# Altium schematic symbol library kmilo17pet-NSC_Interface.SchLib: 1433 symbols (part 23 of 51)
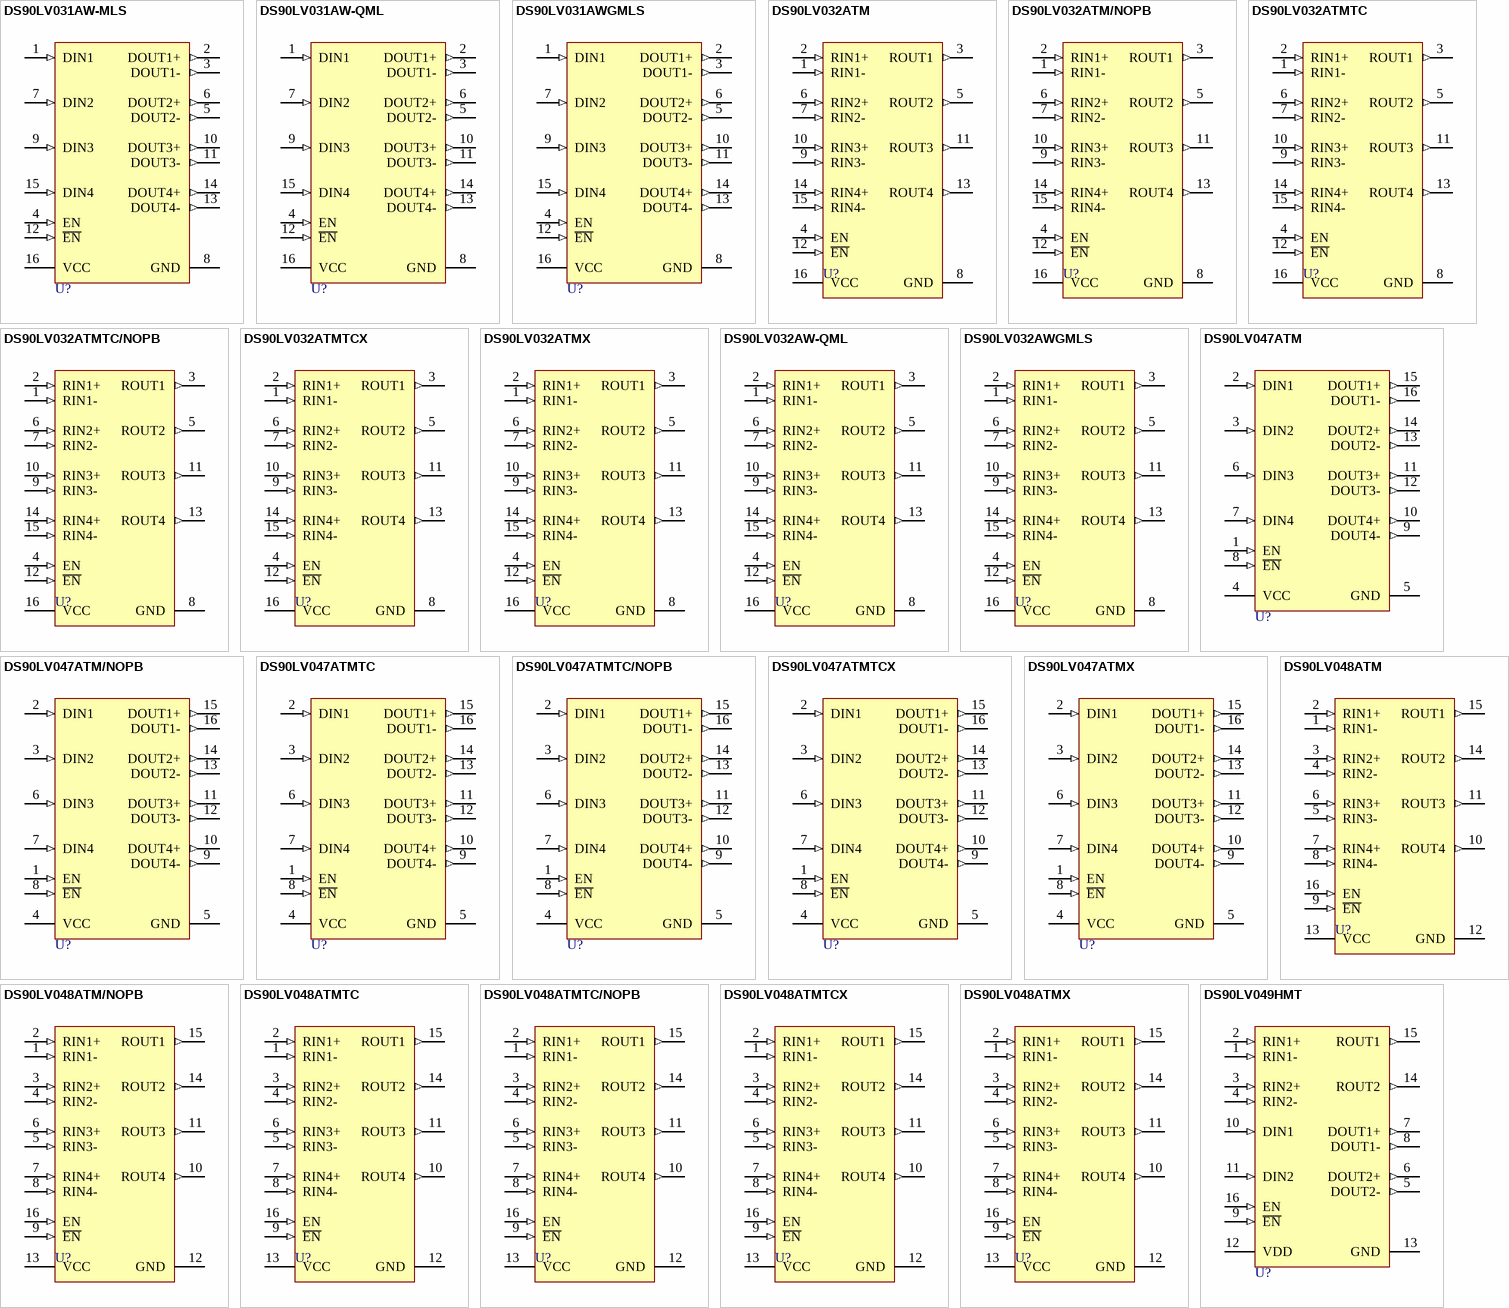
[diagram p146: symbols DS90LV031AW-MLS to DS90LV049HMT]

## DS90LV048ATMTC/NOPB
designator U?
3V LVDS Quad CMOS Differential Line Receiver, 16-pin TSSOP, Pb-Free; PartNumber: DS90LV048ATMTC/NOPB; Manufacturer: National Semiconductor; PackageTopMarking: NS2ZXYTT*DS90LV*048AT; PowerWise: N; CompType: Interface IC; High-Reliability: Y; DatasheetVersion: May-2001; PackageVersion: revD, Jun-2003; PackageReference: MTC16; PackageDescription: Molded TSSOP, Jedec, 5 x 4.4 x 0.9mm Body, 16 Lead, 0.65mm Pitch; RoHS: Y; PinCount: 16; Code_JEDEC: MO-153-AB; ComponentLink1Description: Manufacturer URL; ComponentLink1URL: http://www.national.com/; ComponentLink2Description: DS90LV048A Datasheet; ComponentLink2URL: http://www.national.com/ds/DS/DS90LV048A.pdf; ComponentLink3Description: DS90LV048A Web Page; ComponentLink3URL: http://www.national.com/pf/DS/DS90LV048A.html; ComponentLink4Description: MTC16 Package Page; ComponentLink4URL: http://www.national.com/packaging/folders/mtc16.html
footprint MTC16_N (TSOP, 16-Leads, Body 5x4.4mm, Pitch 0.65mm, IPC Medium Density)
footprint MTC16_L (TSOP, 16-Leads, Body 5x4.4mm, Pitch 0.65mm, IPC High Density)
footprint MTC16_M (TSOP, 16-Leads, Body 5x4.4mm, Pitch 0.65mm, IPC Low Density)
pins: 1 RIN1- (in), 2 RIN1+ (in), 3 RIN2+ (in), 4 RIN2- (in), 5 RIN3- (in), 6 RIN3+ (in), 7 RIN4+ (in), 8 RIN4- (in), 9 ~{EN} (in), 10 ROUT4 (out), 11 ROUT3 (out), 12 GND (power), 13 VCC (power), 14 ROUT2 (out), 15 ROUT1 (out), 16 EN (in)

## DS90LV048ATMTCX
designator U?
3V LVDS Quad CMOS Differential Line Receiver, 16-pin TSSOP; PartNumber: DS90LV048ATMTCX; Manufacturer: National Semiconductor; PackageTopMarking: NS2ZXYTT*DS90LV*048AT; PowerWise: N; CompType: Interface IC; High-Reliability: Y; DatasheetVersion: May-2001; PackageVersion: revD, Jun-2003; PackageReference: MTC16; PackageDescription: Molded TSSOP, Jedec, 5 x 4.4 x 0.9mm Body, 16 Lead, 0.65mm Pitch; RoHS: N; PinCount: 16; Code_JEDEC: MO-153-AB; ComponentLink1Description: Manufacturer URL; ComponentLink1URL: http://www.national.com/; ComponentLink2Description: DS90LV048A Datasheet; ComponentLink2URL: http://www.national.com/ds/DS/DS90LV048A.pdf; ComponentLink3Description: DS90LV048A Web Page; ComponentLink3URL: http://www.national.com/pf/DS/DS90LV048A.html; ComponentLink4Description: MTC16 Package Page; ComponentLink4URL: http://www.national.com/packaging/folders/mtc16.html
footprint MTC16_N (TSOP, 16-Leads, Body 5x4.4mm, Pitch 0.65mm, IPC Medium Density)
footprint MTC16_L (TSOP, 16-Leads, Body 5x4.4mm, Pitch 0.65mm, IPC High Density)
footprint MTC16_M (TSOP, 16-Leads, Body 5x4.4mm, Pitch 0.65mm, IPC Low Density)
pins: 1 RIN1- (in), 2 RIN1+ (in), 3 RIN2+ (in), 4 RIN2- (in), 5 RIN3- (in), 6 RIN3+ (in), 7 RIN4+ (in), 8 RIN4- (in), 9 ~{EN} (in), 10 ROUT4 (out), 11 ROUT3 (out), 12 GND (power), 13 VCC (power), 14 ROUT2 (out), 15 ROUT1 (out), 16 EN (in)

## DS90LV048ATMX
designator U?
3V LVDS Quad CMOS Differential Line Receiver, 16-pin Narrow SOIC; PartNumber: DS90LV048ATMX; Manufacturer: National Semiconductor; PackageTopMarking: NS2ZXYTTE#*DS90LV048A*TM; PowerWise: N; CompType: Interface IC; High-Reliability: Y; DatasheetVersion: May-2001; PackageVersion: revJ, Aug-1995; PackageReference: M16A; PackageDescription: Molded Package, SO, .150in Wide, 16 Lead; RoHS: N; PinCount: 16; Code_JEDEC: MS-012-AC; Code_IPC: SOIC127P600-16; ComponentLink1Description: Manufacturer URL; ComponentLink1URL: http://www.national.com/; ComponentLink2Description: DS90LV048A Datasheet; ComponentLink2URL: http://www.national.com/ds/DS/DS90LV048A.pdf; ComponentLink3Description: DS90LV048A Web Page; ComponentLink3URL: http://www.national.com/pf/DS/DS90LV048A.html; ComponentLink4Description: M16A Package Page; ComponentLink4URL: http://www.national.com/packaging/folders/m16a.html
footprint M16A_N (SOIC, 16-Leads, Body 9.9x3.9mm, Pitch 1.27mm, IPC Medium Density)
footprint M16A_L (SOIC, 16-Leads, Body 9.9x3.9mm, Pitch 1.27mm, IPC High Density)
footprint M16A_M (SOIC, 16-Leads, Body 9.9x3.9mm, Pitch 1.27mm, IPC Low Density)
pins: 1 RIN1- (in), 2 RIN1+ (in), 3 RIN2+ (in), 4 RIN2- (in), 5 RIN3- (in), 6 RIN3+ (in), 7 RIN4+ (in), 8 RIN4- (in), 9 ~{EN} (in), 10 ROUT4 (out), 11 ROUT3 (out), 12 GND (power), 13 VCC (power), 14 ROUT2 (out), 15 ROUT1 (out), 16 EN (in)

## DS90LV049HMT
designator U?
High Temperature 3V LVDS Dual Line Driver and Receiver Pair, 16-pin TSSOP; PartNumber: DS90LV049HMT; Manufacturer: National Semiconductor; PackageTopMarking: NSUZXYTT*90LV049*HMT; PowerWise: N; CompType: Interface IC; High-Reliability: Y; DatasheetVersion: Sep-2005; PackageVersion: revD, Jun-2003; PackageReference: MTC16; PackageDescription: Molded TSSOP, Jedec, 5 x 4.4 x 0.9mm Body, 16 Lead, 0.65mm Pitch; RoHS: N; PinCount: 16; Code_JEDEC: MO-153-AB; ComponentLink1Description: Manufacturer URL; ComponentLink1URL: http://www.national.com/; ComponentLink2Description: DS90LV049H Datasheet; ComponentLink2URL: http://www.national.com/ds/DS/DS90LV049H.pdf; ComponentLink3Description: DS90LV049H Web Page; ComponentLink3URL: http://www.national.com/pf/DS/DS90LV049H.html; ComponentLink4Description: MTC16 Package Page; ComponentLink4URL: http://www.national.com/packaging/folders/mtc16.html
footprint MTC16_N (TSOP, 16-Leads, Body 5x4.4mm, Pitch 0.65mm, IPC Medium Density)
footprint MTC16_L (TSOP, 16-Leads, Body 5x4.4mm, Pitch 0.65mm, IPC High Density)
footprint MTC16_M (TSOP, 16-Leads, Body 5x4.4mm, Pitch 0.65mm, IPC Low Density)
pins: 1 RIN1- (in), 2 RIN1+ (in), 3 RIN2+ (in), 4 RIN2- (in), 5 DOUT2- (out), 6 DOUT2+ (out), 7 DOUT1+ (out), 8 DOUT1- (out), 9 ~{EN} (in), 10 DIN1 (in), 11 DIN2 (in), 12 VDD (power), 13 GND (power), 14 ROUT2 (out), 15 ROUT1 (out), 16 EN (in)

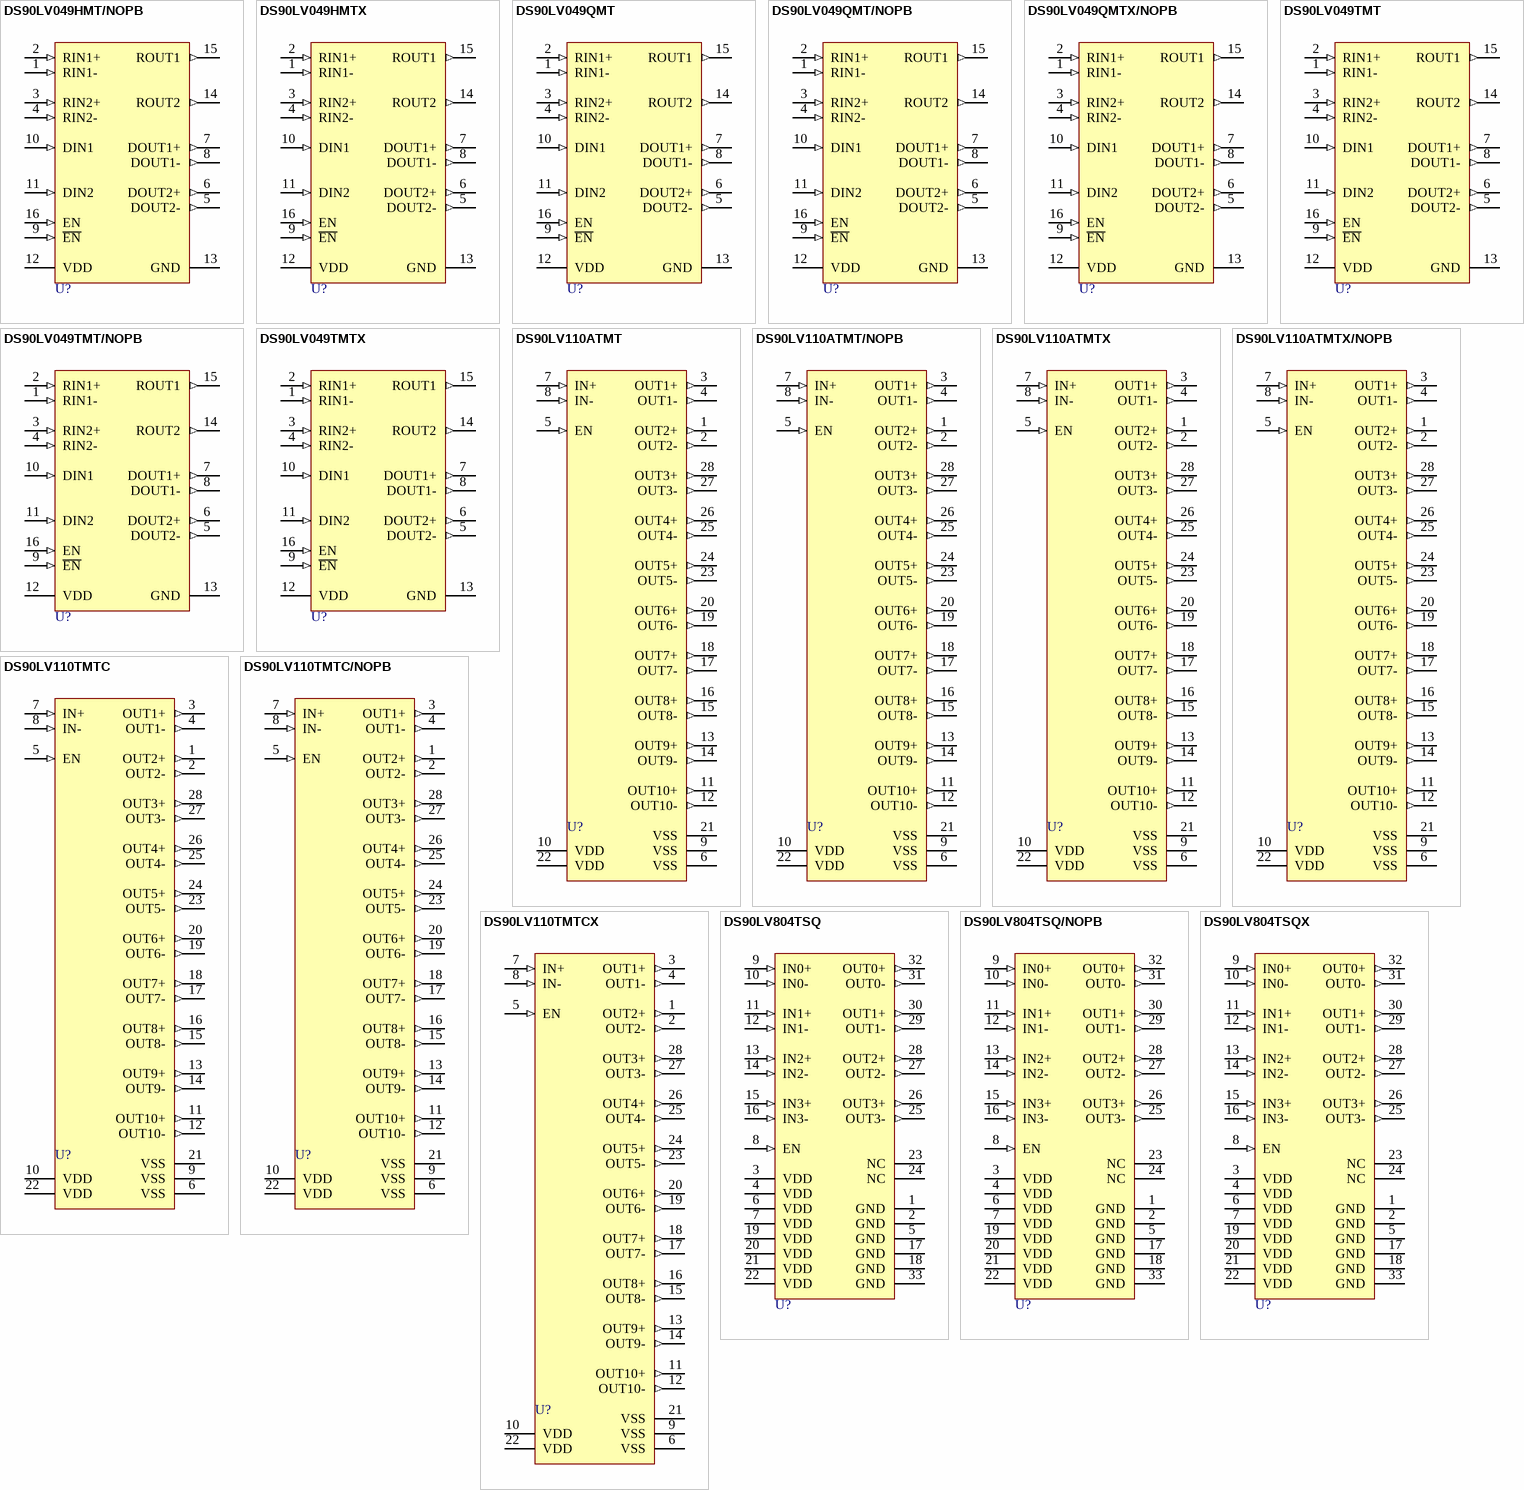
[diagram p62: symbols DS90LV049HMT/NOPB to DS90LV804TSQX]

## DS90LV049HMT/NOPB
designator U?
High Temperature 3V LVDS Dual Line Driver and Receiver Pair, 16 pin TSSOP; PartNumber: DS90LV049HMT/NOPB; Manufacturer: National Semiconductor; PackageTopMarking: NSUZXYTT*90LV049*HMT; PowerWise: N; CompType: Interface IC; High-Reliability: Y; DatasheetVersion: Sep-2005; PackageVersion: revD, Jun-2003; PackageReference: MTC16; PackageDescription: Molded TSSOP, Jedec, 5 x 4.4 x 0.9mm Body, 16 Lead, 0.65mm Pitch; RoHS: Y; PinCount: 16; Code_JEDEC: MO-153-AB; ComponentLink1Description: Manufacturer URL; ComponentLink1URL: http://www.national.com/; ComponentLink2Description: DS90LV049H Datasheet; ComponentLink2URL: http://www.national.com/ds/DS/DS90LV049H.pdf; ComponentLink3Description: DS90LV049H Web Page; ComponentLink3URL: http://www.national.com/pf/DS/DS90LV049H.html; ComponentLink4Description: MTC16 Package Page; ComponentLink4URL: http://www.national.com/packaging/folders/mtc16.html
footprint MTC16_N (TSOP, 16-Leads, Body 5x4.4mm, Pitch 0.65mm, IPC Medium Density)
footprint MTC16_L (TSOP, 16-Leads, Body 5x4.4mm, Pitch 0.65mm, IPC High Density)
footprint MTC16_M (TSOP, 16-Leads, Body 5x4.4mm, Pitch 0.65mm, IPC Low Density)
pins: 1 RIN1- (in), 2 RIN1+ (in), 3 RIN2+ (in), 4 RIN2- (in), 5 DOUT2- (out), 6 DOUT2+ (out), 7 DOUT1+ (out), 8 DOUT1- (out), 9 ~{EN} (in), 10 DIN1 (in), 11 DIN2 (in), 12 VDD (power), 13 GND (power), 14 ROUT2 (out), 15 ROUT1 (out), 16 EN (in)

## DS90LV049HMTX
designator U?
High Temperature 3V LVDS Dual Line Driver and Receiver Pair, 16 pin TSSOP; PartNumber: DS90LV049HMTX; Manufacturer: National Semiconductor; PackageTopMarking: NSUZXYTT*90LV049*HMT; PowerWise: N; CompType: Interface IC; High-Reliability: Y; DatasheetVersion: Sep-2005; PackageVersion: revD, Jun-2003; PackageReference: MTC16; PackageDescription: Molded TSSOP, Jedec, 5 x 4.4 x 0.9mm Body, 16 Lead, 0.65mm Pitch; RoHS: N; PinCount: 16; Code_JEDEC: MO-153-AB; ComponentLink1Description: Manufacturer URL; ComponentLink1URL: http://www.national.com/; ComponentLink2Description: DS90LV049H Datasheet; ComponentLink2URL: http://www.national.com/ds/DS/DS90LV049H.pdf; ComponentLink3Description: DS90LV049H Web Page; ComponentLink3URL: http://www.national.com/pf/DS/DS90LV049H.html; ComponentLink4Description: MTC16 Package Page; ComponentLink4URL: http://www.national.com/packaging/folders/mtc16.html
footprint MTC16_N (TSOP, 16-Leads, Body 5x4.4mm, Pitch 0.65mm, IPC Medium Density)
footprint MTC16_L (TSOP, 16-Leads, Body 5x4.4mm, Pitch 0.65mm, IPC High Density)
footprint MTC16_M (TSOP, 16-Leads, Body 5x4.4mm, Pitch 0.65mm, IPC Low Density)
pins: 1 RIN1- (in), 2 RIN1+ (in), 3 RIN2+ (in), 4 RIN2- (in), 5 DOUT2- (out), 6 DOUT2+ (out), 7 DOUT1+ (out), 8 DOUT1- (out), 9 ~{EN} (in), 10 DIN1 (in), 11 DIN2 (in), 12 VDD (power), 13 GND (power), 14 ROUT2 (out), 15 ROUT1 (out), 16 EN (in)

## DS90LV049QMT
designator U?
Automotive LVDS Dual Line Driver and Receiver Pair, 16-pin TSSOP; PartNumber: DS90LV049QMT; Manufacturer: National Semiconductor; PackageTopMarking: NSUZXYTT*90LV049*QMT; PowerWise: N; CompType: Interface IC; High-Reliability: Y; DatasheetVersion: Jul-2008; PackageVersion: revD, Jun-2003; PackageReference: MTC16; PackageDescription: Molded TSSOP, Jedec, 5 x 4.4 x 0.9mm Body, 16 Lead, 0.65mm Pitch; RoHS: Y; PinCount: 16; Code_JEDEC: MO-153-AB; ComponentLink1Description: Manufacturer URL; ComponentLink1URL: http://www.national.com/; ComponentLink2Description: DS90LV049Q Datasheet; ComponentLink2URL: http://www.national.com/ds/DS/DS90LV049Q.pdf; ComponentLink3Description: DS90LV049Q Web Page; ComponentLink3URL: http://www.national.com/pf/DS/DS90LV049Q.html; ComponentLink4Description: MTC16 Package Page; ComponentLink4URL: http://www.national.com/packaging/folders/mtc16.html
footprint MTC16_N (TSOP, 16-Leads, Body 5x4.4mm, Pitch 0.65mm, IPC Medium Density)
footprint MTC16_L (TSOP, 16-Leads, Body 5x4.4mm, Pitch 0.65mm, IPC High Density)
footprint MTC16_M (TSOP, 16-Leads, Body 5x4.4mm, Pitch 0.65mm, IPC Low Density)
pins: 1 RIN1- (in), 2 RIN1+ (in), 3 RIN2+ (in), 4 RIN2- (in), 5 DOUT2- (out), 6 DOUT2+ (out), 7 DOUT1+ (out), 8 DOUT1- (out), 9 ~{EN} (in), 10 DIN1 (in), 11 DIN2 (in), 12 VDD (power), 13 GND (power), 14 ROUT2 (out), 15 ROUT1 (out), 16 EN (in)

## DS90LV049QMT/NOPB
designator U?
Automotive LVDS Dual Line Driver and Receiver Pair, 16-pin TSSOP, Pb-Free; PartNumber: DS90LV049QMT/NOPB; Manufacturer: National Semiconductor; PackageTopMarking: NSUZXYTT*90LV049*QMT; PowerWise: N; CompType: Interface IC; High-Reliability: Y; DatasheetVersion: Jul-2008; PackageVersion: revD, Jun-2003; PackageReference: MTC16; PackageDescription: Molded TSSOP, Jedec, 5 x 4.4 x 0.9mm Body, 16 Lead, 0.65mm Pitch; RoHS: Y; PinCount: 16; Code_JEDEC: MO-153-AB; ComponentLink1Description: Manufacturer URL; ComponentLink1URL: http://www.national.com/; ComponentLink2Description: DS90LV049Q Datasheet; ComponentLink2URL: http://www.national.com/ds/DS/DS90LV049Q.pdf; ComponentLink3Description: DS90LV049Q Web Page; ComponentLink3URL: http://www.national.com/pf/DS/DS90LV049Q.html; ComponentLink4Description: MTC16 Package Page; ComponentLink4URL: http://www.national.com/packaging/folders/mtc16.html
footprint MTC16_N (TSOP, 16-Leads, Body 5x4.4mm, Pitch 0.65mm, IPC Medium Density)
footprint MTC16_L (TSOP, 16-Leads, Body 5x4.4mm, Pitch 0.65mm, IPC High Density)
footprint MTC16_M (TSOP, 16-Leads, Body 5x4.4mm, Pitch 0.65mm, IPC Low Density)
pins: 1 RIN1- (in), 2 RIN1+ (in), 3 RIN2+ (in), 4 RIN2- (in), 5 DOUT2- (out), 6 DOUT2+ (out), 7 DOUT1+ (out), 8 DOUT1- (out), 9 ~{EN} (in), 10 DIN1 (in), 11 DIN2 (in), 12 VDD (power), 13 GND (power), 14 ROUT2 (out), 15 ROUT1 (out), 16 EN (in)

## DS90LV049QMTX/NOPB
designator U?
Automotive LVDS Dual Line Driver and Receiver Pair, 16-pin TSSOP, Pb-Free; PartNumber: DS90LV049QMTX/NOPB; Manufacturer: National Semiconductor; PackageTopMarking: NSUZXYTT*90LV049*QMT; PowerWise: N; CompType: Interface IC; High-Reliability: Y; DatasheetVersion: Jul-2008; PackageVersion: revD, Jun-2003; PackageReference: MTC16; PackageDescription: Molded TSSOP, Jedec, 5 x 4.4 x 0.9mm Body, 16 Lead, 0.65mm Pitch; RoHS: Y; PinCount: 16; Code_JEDEC: MO-153-AB; ComponentLink1Description: Manufacturer URL; ComponentLink1URL: http://www.national.com/; ComponentLink2Description: DS90LV049Q Datasheet; ComponentLink2URL: http://www.national.com/ds/DS/DS90LV049Q.pdf; ComponentLink3Description: DS90LV049Q Web Page; ComponentLink3URL: http://www.national.com/pf/DS/DS90LV049Q.html; ComponentLink4Description: MTC16 Package Page; ComponentLink4URL: http://www.national.com/packaging/folders/mtc16.html
footprint MTC16_N (TSOP, 16-Leads, Body 5x4.4mm, Pitch 0.65mm, IPC Medium Density)
footprint MTC16_L (TSOP, 16-Leads, Body 5x4.4mm, Pitch 0.65mm, IPC High Density)
footprint MTC16_M (TSOP, 16-Leads, Body 5x4.4mm, Pitch 0.65mm, IPC Low Density)
pins: 1 RIN1- (in), 2 RIN1+ (in), 3 RIN2+ (in), 4 RIN2- (in), 5 DOUT2- (out), 6 DOUT2+ (out), 7 DOUT1+ (out), 8 DOUT1- (out), 9 ~{EN} (in), 10 DIN1 (in), 11 DIN2 (in), 12 VDD (power), 13 GND (power), 14 ROUT2 (out), 15 ROUT1 (out), 16 EN (in)

## DS90LV049TMT
designator U?
3V LVDS Dual Line Driver with Dual Line Receiver, 16-pin TSSOP; PartNumber: DS90LV049TMT; Manufacturer: National Semiconductor; PackageTopMarking: NSZXYTT*90LV049*TMT; PowerWise: N; CompType: Interface IC; High-Reliability: Y; DatasheetVersion: Mar-2003; PackageVersion: revD, Jun-2003; PackageReference: MTC16; PackageDescription: Molded TSSOP, Jedec, 5 x 4.4 x 0.9mm Body, 16 Lead, 0.65mm Pitch; RoHS: N; PinCount: 16; Code_JEDEC: MO-153-AB; ComponentLink1Description: Manufacturer URL; ComponentLink1URL: http://www.national.com/; ComponentLink2Description: DS90LV049 Datasheet; ComponentLink2URL: http://www.national.com/ds/DS/DS90LV049.pdf; ComponentLink3Description: DS90LV049 Web Page; ComponentLink3URL: http://www.national.com/pf/DS/DS90LV049.html; ComponentLink4Description: MTC16 Package Page; ComponentLink4URL: http://www.national.com/packaging/folders/mtc16.html
footprint MTC16_N (TSOP, 16-Leads, Body 5x4.4mm, Pitch 0.65mm, IPC Medium Density)
footprint MTC16_L (TSOP, 16-Leads, Body 5x4.4mm, Pitch 0.65mm, IPC High Density)
footprint MTC16_M (TSOP, 16-Leads, Body 5x4.4mm, Pitch 0.65mm, IPC Low Density)
pins: 1 RIN1- (in), 2 RIN1+ (in), 3 RIN2+ (in), 4 RIN2- (in), 5 DOUT2- (out), 6 DOUT2+ (out), 7 DOUT1+ (out), 8 DOUT1- (out), 9 ~{EN} (in), 10 DIN1 (in), 11 DIN2 (in), 12 VDD (power), 13 GND (power), 14 ROUT2 (out), 15 ROUT1 (out), 16 EN (in)

## DS90LV049TMT/NOPB
designator U?
3V LVDS Dual Line Driver with Dual Line Receiver, 16-pin TSSOP, Pb-Free; PartNumber: DS90LV049TMT/NOPB; Manufacturer: National Semiconductor; PackageTopMarking: NSZXYTT*90LV049*TMT; PowerWise: N; CompType: Interface IC; High-Reliability: Y; DatasheetVersion: Mar-2003; PackageVersion: revD, Jun-2003; PackageReference: MTC16; PackageDescription: Molded TSSOP, Jedec, 5 x 4.4 x 0.9mm Body, 16 Lead, 0.65mm Pitch; RoHS: Y; PinCount: 16; Code_JEDEC: MO-153-AB; ComponentLink1Description: Manufacturer URL; ComponentLink1URL: http://www.national.com/; ComponentLink2Description: DS90LV049 Datasheet; ComponentLink2URL: http://www.national.com/ds/DS/DS90LV049.pdf; ComponentLink3Description: DS90LV049 Web Page; ComponentLink3URL: http://www.national.com/pf/DS/DS90LV049.html; ComponentLink4Description: MTC16 Package Page; ComponentLink4URL: http://www.national.com/packaging/folders/mtc16.html
footprint MTC16_N (TSOP, 16-Leads, Body 5x4.4mm, Pitch 0.65mm, IPC Medium Density)
footprint MTC16_L (TSOP, 16-Leads, Body 5x4.4mm, Pitch 0.65mm, IPC High Density)
footprint MTC16_M (TSOP, 16-Leads, Body 5x4.4mm, Pitch 0.65mm, IPC Low Density)
pins: 1 RIN1- (in), 2 RIN1+ (in), 3 RIN2+ (in), 4 RIN2- (in), 5 DOUT2- (out), 6 DOUT2+ (out), 7 DOUT1+ (out), 8 DOUT1- (out), 9 ~{EN} (in), 10 DIN1 (in), 11 DIN2 (in), 12 VDD (power), 13 GND (power), 14 ROUT2 (out), 15 ROUT1 (out), 16 EN (in)

## DS90LV049TMTX
designator U?
3V LVDS Dual Line Driver with Dual Line Receiver, 16-pin TSSOP; PartNumber: DS90LV049TMTX; Manufacturer: National Semiconductor; PackageTopMarking: NSZXYTT*90LV049*TMT; PowerWise: N; CompType: Interface IC; High-Reliability: Y; DatasheetVersion: Mar-2003; PackageVersion: revD, Jun-2003; PackageReference: MTC16; PackageDescription: Molded TSSOP, Jedec, 5 x 4.4 x 0.9mm Body, 16 Lead, 0.65mm Pitch; RoHS: N; PinCount: 16; Code_JEDEC: MO-153-AB; ComponentLink1Description: Manufacturer URL; ComponentLink1URL: http://www.national.com/; ComponentLink2Description: DS90LV049 Datasheet; ComponentLink2URL: http://www.national.com/ds/DS/DS90LV049.pdf; ComponentLink3Description: DS90LV049 Web Page; ComponentLink3URL: http://www.national.com/pf/DS/DS90LV049.html; ComponentLink4Description: MTC16 Package Page; ComponentLink4URL: http://www.national.com/packaging/folders/mtc16.html
footprint MTC16_N (TSOP, 16-Leads, Body 5x4.4mm, Pitch 0.65mm, IPC Medium Density)
footprint MTC16_L (TSOP, 16-Leads, Body 5x4.4mm, Pitch 0.65mm, IPC High Density)
footprint MTC16_M (TSOP, 16-Leads, Body 5x4.4mm, Pitch 0.65mm, IPC Low Density)
pins: 1 RIN1- (in), 2 RIN1+ (in), 3 RIN2+ (in), 4 RIN2- (in), 5 DOUT2- (out), 6 DOUT2+ (out), 7 DOUT1+ (out), 8 DOUT1- (out), 9 ~{EN} (in), 10 DIN1 (in), 11 DIN2 (in), 12 VDD (power), 13 GND (power), 14 ROUT2 (out), 15 ROUT1 (out), 16 EN (in)

## DS90LV110ATMT
designator U?
1 to 10 LVDS Data/Clock Distributor with Failsafe, 28-pin TSSOP; PartNumber: DS90LV110ATMT; Manufacturer: National Semiconductor; PackageTopMarking: NSUZXYTTE#*DS90LV*110ATMT; PowerWise: N; CompType: Interface IC; High-Reliability: Y; DatasheetVersion: Sep-2008; PackageVersion: revD, Jan-2005; PackageReference: MTC28; PackageDescription: Molded TSSOP, Jedec, 9.7 x 4.4 x 0.9mm Body, 28 Lead, 0.65mm Pitch; RoHS: N; PinCount: 28; Code_JEDEC: MO-153-AE; ComponentLink1Description: Manufacturer URL; ComponentLink1URL: http://www.national.com/; ComponentLink2Description: DS90LV110AT Datasheet; ComponentLink2URL: http://www.national.com/ds/DS/DS90LV110AT.pdf; ComponentLink3Description: DS90LV110AT Web Page; ComponentLink3URL: http://www.national.com/pf/DS/DS90LV110AT.html; ComponentLink4Description: MTC28 Package Page; ComponentLink4URL: http://www.national.com/packaging/folders/mtc28.html
footprint MTC28_N (TSOP, 28-Leads, Body 9.7x4.4mm, Pitch 0.65mm, IPC Medium Density)
footprint MTC28_L (TSOP, 28-Leads, Body 9.7x4.4mm, Pitch 0.65mm, IPC High Density)
footprint MTC28_M (TSOP, 28-Leads, Body 9.7x4.4mm, Pitch 0.65mm, IPC Low Density)
pins: 1 OUT2+ (out), 2 OUT2- (out), 3 OUT1+ (out), 4 OUT1- (out), 5 EN (in), 6 VSS (power), 7 IN+ (in), 8 IN- (in), 9 VSS (power), 10 VDD (power), 11 OUT10+ (out), 12 OUT10- (out), 13 OUT9+ (out), 14 OUT9- (out), 15 OUT8- (out), 16 OUT8+ (out), 17 OUT7- (out), 18 OUT7+ (out), 19 OUT6- (out), 20 OUT6+ (out), 21 VSS (power), 22 VDD (power), 23 OUT5- (out), 24 OUT5+ (out), 25 OUT4- (out), 26 OUT4+ (out), 27 OUT3- (out), 28 OUT3+ (out)

## DS90LV110ATMT/NOPB
designator U?
1 to 10 LVDS Data/Clock Distributor with Failsafe, 28-pin TSSOP, Pb-Free; PartNumber: DS90LV110ATMT/NOPB; Manufacturer: National Semiconductor; PackageTopMarking: NSUZXYTTE#*DS90LV*110ATMT; PowerWise: N; CompType: Interface IC; High-Reliability: Y; DatasheetVersion: Sep-2008; PackageVersion: revD, Jan-2005; PackageReference: MTC28; PackageDescription: Molded TSSOP, Jedec, 9.7 x 4.4 x 0.9mm Body, 28 Lead, 0.65mm Pitch; RoHS: Y; PinCount: 28; Code_JEDEC: MO-153-AE; ComponentLink1Description: Manufacturer URL; ComponentLink1URL: http://www.national.com/; ComponentLink2Description: DS90LV110AT Datasheet; ComponentLink2URL: http://www.national.com/ds/DS/DS90LV110AT.pdf; ComponentLink3Description: DS90LV110AT Web Page; ComponentLink3URL: http://www.national.com/pf/DS/DS90LV110AT.html; ComponentLink4Description: MTC28 Package Page; ComponentLink4URL: http://www.national.com/packaging/folders/mtc28.html
footprint MTC28_N (TSOP, 28-Leads, Body 9.7x4.4mm, Pitch 0.65mm, IPC Medium Density)
footprint MTC28_L (TSOP, 28-Leads, Body 9.7x4.4mm, Pitch 0.65mm, IPC High Density)
footprint MTC28_M (TSOP, 28-Leads, Body 9.7x4.4mm, Pitch 0.65mm, IPC Low Density)
pins: 1 OUT2+ (out), 2 OUT2- (out), 3 OUT1+ (out), 4 OUT1- (out), 5 EN (in), 6 VSS (power), 7 IN+ (in), 8 IN- (in), 9 VSS (power), 10 VDD (power), 11 OUT10+ (out), 12 OUT10- (out), 13 OUT9+ (out), 14 OUT9- (out), 15 OUT8- (out), 16 OUT8+ (out), 17 OUT7- (out), 18 OUT7+ (out), 19 OUT6- (out), 20 OUT6+ (out), 21 VSS (power), 22 VDD (power), 23 OUT5- (out), 24 OUT5+ (out), 25 OUT4- (out), 26 OUT4+ (out), 27 OUT3- (out), 28 OUT3+ (out)

## DS90LV110ATMTX
designator U?
1 to 10 LVDS Data/Clock Distributor with Failsafe, 28-pin TSSOP; PartNumber: DS90LV110ATMTX; Manufacturer: National Semiconductor; PackageTopMarking: NSUZXYTTE#*DS90LV*110ATMT; PowerWise: N; CompType: Interface IC; High-Reliability: Y; DatasheetVersion: Sep-2008; PackageVersion: revD, Jan-2005; PackageReference: MTC28; PackageDescription: Molded TSSOP, Jedec, 9.7 x 4.4 x 0.9mm Body, 28 Lead, 0.65mm Pitch; RoHS: N; PinCount: 28; Code_JEDEC: MO-153-AE; ComponentLink1Description: Manufacturer URL; ComponentLink1URL: http://www.national.com/; ComponentLink2Description: DS90LV110AT Datasheet; ComponentLink2URL: http://www.national.com/ds/DS/DS90LV110AT.pdf; ComponentLink3Description: DS90LV110AT Web Page; ComponentLink3URL: http://www.national.com/pf/DS/DS90LV110AT.html; ComponentLink4Description: MTC28 Package Page; ComponentLink4URL: http://www.national.com/packaging/folders/mtc28.html
footprint MTC28_N (TSOP, 28-Leads, Body 9.7x4.4mm, Pitch 0.65mm, IPC Medium Density)
footprint MTC28_L (TSOP, 28-Leads, Body 9.7x4.4mm, Pitch 0.65mm, IPC High Density)
footprint MTC28_M (TSOP, 28-Leads, Body 9.7x4.4mm, Pitch 0.65mm, IPC Low Density)
pins: 1 OUT2+ (out), 2 OUT2- (out), 3 OUT1+ (out), 4 OUT1- (out), 5 EN (in), 6 VSS (power), 7 IN+ (in), 8 IN- (in), 9 VSS (power), 10 VDD (power), 11 OUT10+ (out), 12 OUT10- (out), 13 OUT9+ (out), 14 OUT9- (out), 15 OUT8- (out), 16 OUT8+ (out), 17 OUT7- (out), 18 OUT7+ (out), 19 OUT6- (out), 20 OUT6+ (out), 21 VSS (power), 22 VDD (power), 23 OUT5- (out), 24 OUT5+ (out), 25 OUT4- (out), 26 OUT4+ (out), 27 OUT3- (out), 28 OUT3+ (out)

## DS90LV110ATMTX/NOPB
designator U?
1 to 10 LVDS Data/Clock Distributor with Failsafe, 28-pin TSSOP, Pb-Free; PartNumber: DS90LV110ATMTX/NOPB; Manufacturer: National Semiconductor; PackageTopMarking: NSUZXYTTE#*DS90LV*110ATMT; PowerWise: N; CompType: Interface IC; High-Reliability: Y; DatasheetVersion: Sep-2008; PackageVersion: revD, Jan-2005; PackageReference: MTC28; PackageDescription: Molded TSSOP, Jedec, 9.7 x 4.4 x 0.9mm Body, 28 Lead, 0.65mm Pitch; RoHS: Y; PinCount: 28; Code_JEDEC: MO-153-AE; ComponentLink1Description: Manufacturer URL; ComponentLink1URL: http://www.national.com/; ComponentLink2Description: DS90LV110AT Datasheet; ComponentLink2URL: http://www.national.com/ds/DS/DS90LV110AT.pdf; ComponentLink3Description: DS90LV110AT Web Page; ComponentLink3URL: http://www.national.com/pf/DS/DS90LV110AT.html; ComponentLink4Description: MTC28 Package Page; ComponentLink4URL: http://www.national.com/packaging/folders/mtc28.html
footprint MTC28_N (TSOP, 28-Leads, Body 9.7x4.4mm, Pitch 0.65mm, IPC Medium Density)
footprint MTC28_L (TSOP, 28-Leads, Body 9.7x4.4mm, Pitch 0.65mm, IPC High Density)
footprint MTC28_M (TSOP, 28-Leads, Body 9.7x4.4mm, Pitch 0.65mm, IPC Low Density)
pins: 1 OUT2+ (out), 2 OUT2- (out), 3 OUT1+ (out), 4 OUT1- (out), 5 EN (in), 6 VSS (power), 7 IN+ (in), 8 IN- (in), 9 VSS (power), 10 VDD (power), 11 OUT10+ (out), 12 OUT10- (out), 13 OUT9+ (out), 14 OUT9- (out), 15 OUT8- (out), 16 OUT8+ (out), 17 OUT7- (out), 18 OUT7+ (out), 19 OUT6- (out), 20 OUT6+ (out), 21 VSS (power), 22 VDD (power), 23 OUT5- (out), 24 OUT5+ (out), 25 OUT4- (out), 26 OUT4+ (out), 27 OUT3- (out), 28 OUT3+ (out)

## DS90LV110TMTC
designator U?
1 to 10 LVDS Data/Clock Distributor, 28-pin TSSOP; PartNumber: DS90LV110TMTC; Manufacturer: National Semiconductor; PackageTopMarking: NSUZXYTTE#*DS90LV*110TMTC; PowerWise: N; CompType: Interface IC; High-Reliability: Y; DatasheetVersion: Mar-2009; PackageVersion: revD, Jan-2005; PackageReference: MTC28; PackageDescription: Molded TSSOP, Jedec, 9.7 x 4.4 x 0.9mm Body, 28 Lead, 0.65mm Pitch; RoHS: N; PinCount: 28; Code_JEDEC: MO-153-AE; ComponentLink1Description: Manufacturer URL; ComponentLink1URL: http://www.national.com/; ComponentLink2Description: DS90LV110T Datasheet; ComponentLink2URL: http://www.national.com/ds/DS/DS90LV110T.pdf; ComponentLink3Description: DS90LV110T Web Page; ComponentLink3URL: http://www.national.com/pf/DS/DS90LV110T.html; ComponentLink4Description: MTC28 Package Page; ComponentLink4URL: http://www.national.com/packaging/folders/mtc28.html
footprint MTC28_N (TSOP, 28-Leads, Body 9.7x4.4mm, Pitch 0.65mm, IPC Medium Density)
footprint MTC28_L (TSOP, 28-Leads, Body 9.7x4.4mm, Pitch 0.65mm, IPC High Density)
footprint MTC28_M (TSOP, 28-Leads, Body 9.7x4.4mm, Pitch 0.65mm, IPC Low Density)
pins: 1 OUT2+ (out), 2 OUT2- (out), 3 OUT1+ (out), 4 OUT1- (out), 5 EN (in), 6 VSS (power), 7 IN+ (in), 8 IN- (in), 9 VSS (power), 10 VDD (power), 11 OUT10+ (out), 12 OUT10- (out), 13 OUT9+ (out), 14 OUT9- (out), 15 OUT8- (out), 16 OUT8+ (out), 17 OUT7- (out), 18 OUT7+ (out), 19 OUT6- (out), 20 OUT6+ (out), 21 VSS (power), 22 VDD (power), 23 OUT5- (out), 24 OUT5+ (out), 25 OUT4- (out), 26 OUT4+ (out), 27 OUT3- (out), 28 OUT3+ (out)

## DS90LV110TMTC/NOPB
designator U?
1 to 10 LVDS Data/Clock Distributor, 28-pin TSSOP, Pb-Free; PartNumber: DS90LV110TMTC/NOPB; Manufacturer: National Semiconductor; PackageTopMarking: NSUZXYTTE#*DS90LV*110TMTC; PowerWise: N; CompType: Interface IC; High-Reliability: Y; DatasheetVersion: Mar-2009; PackageVersion: revD, Jan-2005; PackageReference: MTC28; PackageDescription: Molded TSSOP, Jedec, 9.7 x 4.4 x 0.9mm Body, 28 Lead, 0.65mm Pitch; RoHS: Y; PinCount: 28; Code_JEDEC: MO-153-AE; ComponentLink1Description: Manufacturer URL; ComponentLink1URL: http://www.national.com/; ComponentLink2Description: DS90LV110T Datasheet; ComponentLink2URL: http://www.national.com/ds/DS/DS90LV110T.pdf; ComponentLink3Description: DS90LV110T Web Page; ComponentLink3URL: http://www.national.com/pf/DS/DS90LV110T.html; ComponentLink4Description: MTC28 Package Page; ComponentLink4URL: http://www.national.com/packaging/folders/mtc28.html
footprint MTC28_N (TSOP, 28-Leads, Body 9.7x4.4mm, Pitch 0.65mm, IPC Medium Density)
footprint MTC28_L (TSOP, 28-Leads, Body 9.7x4.4mm, Pitch 0.65mm, IPC High Density)
footprint MTC28_M (TSOP, 28-Leads, Body 9.7x4.4mm, Pitch 0.65mm, IPC Low Density)
pins: 1 OUT2+ (out), 2 OUT2- (out), 3 OUT1+ (out), 4 OUT1- (out), 5 EN (in), 6 VSS (power), 7 IN+ (in), 8 IN- (in), 9 VSS (power), 10 VDD (power), 11 OUT10+ (out), 12 OUT10- (out), 13 OUT9+ (out), 14 OUT9- (out), 15 OUT8- (out), 16 OUT8+ (out), 17 OUT7- (out), 18 OUT7+ (out), 19 OUT6- (out), 20 OUT6+ (out), 21 VSS (power), 22 VDD (power), 23 OUT5- (out), 24 OUT5+ (out), 25 OUT4- (out), 26 OUT4+ (out), 27 OUT3- (out), 28 OUT3+ (out)

## DS90LV110TMTCX
designator U?
1 to 10 LVDS Data/Clock Distributor, 28-pin TSSOP; PartNumber: DS90LV110TMTCX; Manufacturer: National Semiconductor; PackageTopMarking: NSUZXYTTE#*DS90LV*110TMTC; PowerWise: N; CompType: Interface IC; High-Reliability: Y; DatasheetVersion: Mar-2009; PackageVersion: revD, Jan-2005; PackageReference: MTC28; PackageDescription: Molded TSSOP, Jedec, 9.7 x 4.4 x 0.9mm Body, 28 Lead, 0.65mm Pitch; RoHS: N; PinCount: 28; Code_JEDEC: MO-153-AE; ComponentLink1Description: Manufacturer URL; ComponentLink1URL: http://www.national.com/; ComponentLink2Description: DS90LV110T Datasheet; ComponentLink2URL: http://www.national.com/ds/DS/DS90LV110T.pdf; ComponentLink3Description: DS90LV110T Web Page; ComponentLink3URL: http://www.national.com/pf/DS/DS90LV110T.html; ComponentLink4Description: MTC28 Package Page; ComponentLink4URL: http://www.national.com/packaging/folders/mtc28.html
footprint MTC28_N (TSOP, 28-Leads, Body 9.7x4.4mm, Pitch 0.65mm, IPC Medium Density)
footprint MTC28_L (TSOP, 28-Leads, Body 9.7x4.4mm, Pitch 0.65mm, IPC High Density)
footprint MTC28_M (TSOP, 28-Leads, Body 9.7x4.4mm, Pitch 0.65mm, IPC Low Density)
pins: 1 OUT2+ (out), 2 OUT2- (out), 3 OUT1+ (out), 4 OUT1- (out), 5 EN (in), 6 VSS (power), 7 IN+ (in), 8 IN- (in), 9 VSS (power), 10 VDD (power), 11 OUT10+ (out), 12 OUT10- (out), 13 OUT9+ (out), 14 OUT9- (out), 15 OUT8- (out), 16 OUT8+ (out), 17 OUT7- (out), 18 OUT7+ (out), 19 OUT6- (out), 20 OUT6+ (out), 21 VSS (power), 22 VDD (power), 23 OUT5- (out), 24 OUT5+ (out), 25 OUT4- (out), 26 OUT4+ (out), 27 OUT3- (out), 28 OUT3+ (out)

## DS90LV804TSQ
designator U?
Four-Channel 800 Mbps LVDS Repeater, 32-pin LLP; PartNumber: DS90LV804TSQ; Manufacturer: National Semiconductor; PackageTopMarking: NS*UZXYTT*804TSQ; PowerWise: N; CompType: Interface IC; High-Reliability: Y; DatasheetVersion: Mar-2009; PackageVersion: revB, Oct-2009; PackageReference: SQA32A; PackageDescription: LLP, Quad, 5 x 5 x 0.8mm, 32 Lead, 0.5mm Pitch, No Pullback 3.1 x 3.1 Exposed Pad; RoHS: N; PinCount: 32; ComponentLink1Description: Manufacturer URL; ComponentLink1URL: http://www.national.com/; ComponentLink2Description: DS90LV804 Datasheet; ComponentLink2URL: http://www.national.com/ds/DS/DS90LV804.pdf; ComponentLink3Description: DS90LV804 Web Page; ComponentLink3URL: http://www.national.com/pf/DS/DS90LV804.html; ComponentLink4Description: SQA32A Package Page; ComponentLink4URL: http://www.national.com/packaging/folders/sqa32a.html
footprint SQA32A (QFN, 32-Leads, Body 5x5mm, Pitch 0.5mm, Thermal Pad 3.2x3.2mm, NSC Recommended)
pins: 1 GND (power), 2 GND (power), 3 VDD (power), 4 VDD (power), 5 GND (power), 6 VDD (power), 7 VDD (power), 8 EN (in), 9 IN0+ (in), 10 IN0- (in), 11 IN1+ (in), 12 IN1- (in), 13 IN2+ (in), 14 IN2- (in), 15 IN3+ (in), 16 IN3- (in), 17 GND (power), 18 GND (power), 19 VDD (power), 20 VDD (power), 21 VDD (power), 22 VDD (power), 23 NC, 24 NC, 25 OUT3- (out), 26 OUT3+ (out), 27 OUT2- (out), 28 OUT2+ (out), 29 OUT1- (out), 30 OUT1+ (out), 31 OUT0- (out), 32 OUT0+ (out), 33 GND (power)

## DS90LV804TSQ/NOPB
designator U?
4-Channel 800 Mbps LVDS Buffer/Repeater, 32-pin LLP, Pb-Free; PartNumber: DS90LV804TSQ/NOPB; Manufacturer: National Semiconductor; PackageTopMarking: NS*UZXYTT*804TSQ; PowerWise: N; CompType: Interface IC; High-Reliability: Y; DatasheetVersion: Mar-2009; PackageVersion: revB, Oct-2009; PackageReference: SQA32A; PackageDescription: LLP, Quad, 5 x 5 x 0.8mm, 32 Lead, 0.5mm Pitch, No Pullback 3.1 x 3.1 Exposed Pad; RoHS: Y; PinCount: 32; ComponentLink1Description: Manufacturer URL; ComponentLink1URL: http://www.national.com/; ComponentLink2Description: DS90LV804 Datasheet; ComponentLink2URL: http://www.national.com/ds/DS/DS90LV804.pdf; ComponentLink3Description: DS90LV804 Web Page; ComponentLink3URL: http://www.national.com/pf/DS/DS90LV804.html; ComponentLink4Description: SQA32A Package Page; ComponentLink4URL: http://www.national.com/packaging/folders/sqa32a.html
footprint SQA32A (QFN, 32-Leads, Body 5x5mm, Pitch 0.5mm, Thermal Pad 3.2x3.2mm, NSC Recommended)
pins: 1 GND (power), 2 GND (power), 3 VDD (power), 4 VDD (power), 5 GND (power), 6 VDD (power), 7 VDD (power), 8 EN (in), 9 IN0+ (in), 10 IN0- (in), 11 IN1+ (in), 12 IN1- (in), 13 IN2+ (in), 14 IN2- (in), 15 IN3+ (in), 16 IN3- (in), 17 GND (power), 18 GND (power), 19 VDD (power), 20 VDD (power), 21 VDD (power), 22 VDD (power), 23 NC, 24 NC, 25 OUT3- (out), 26 OUT3+ (out), 27 OUT2- (out), 28 OUT2+ (out), 29 OUT1- (out), 30 OUT1+ (out), 31 OUT0- (out), 32 OUT0+ (out), 33 GND (power)

## DS90LV804TSQX
designator U?
4-Channel 800 Mbps LVDS Buffer/Repeater, 32-pin LLP; PartNumber: DS90LV804TSQX; Manufacturer: National Semiconductor; PackageTopMarking: NS*UZXYTT*804TSQ; PowerWise: N; CompType: Interface IC; High-Reliability: Y; DatasheetVersion: Mar-2009; PackageVersion: revB, Oct-2009; PackageReference: SQA32A; PackageDescription: LLP, Quad, 5 x 5 x 0.8mm, 32 Lead, 0.5mm Pitch, No Pullback 3.1 x 3.1 Exposed Pad; RoHS: N; PinCount: 32; ComponentLink1Description: Manufacturer URL; ComponentLink1URL: http://www.national.com/; ComponentLink2Description: DS90LV804 Datasheet; ComponentLink2URL: http://www.national.com/ds/DS/DS90LV804.pdf; ComponentLink3Description: DS90LV804 Web Page; ComponentLink3URL: http://www.national.com/pf/DS/DS90LV804.html; ComponentLink4Description: SQA32A Package Page; ComponentLink4URL: http://www.national.com/packaging/folders/sqa32a.html
footprint SQA32A (QFN, 32-Leads, Body 5x5mm, Pitch 0.5mm, Thermal Pad 3.2x3.2mm, NSC Recommended)
pins: 1 GND (power), 2 GND (power), 3 VDD (power), 4 VDD (power), 5 GND (power), 6 VDD (power), 7 VDD (power), 8 EN (in), 9 IN0+ (in), 10 IN0- (in), 11 IN1+ (in), 12 IN1- (in), 13 IN2+ (in), 14 IN2- (in), 15 IN3+ (in), 16 IN3- (in), 17 GND (power), 18 GND (power), 19 VDD (power), 20 VDD (power), 21 VDD (power), 22 VDD (power), 23 NC, 24 NC, 25 OUT3- (out), 26 OUT3+ (out), 27 OUT2- (out), 28 OUT2+ (out), 29 OUT1- (out), 30 OUT1+ (out), 31 OUT0- (out), 32 OUT0+ (out), 33 GND (power)

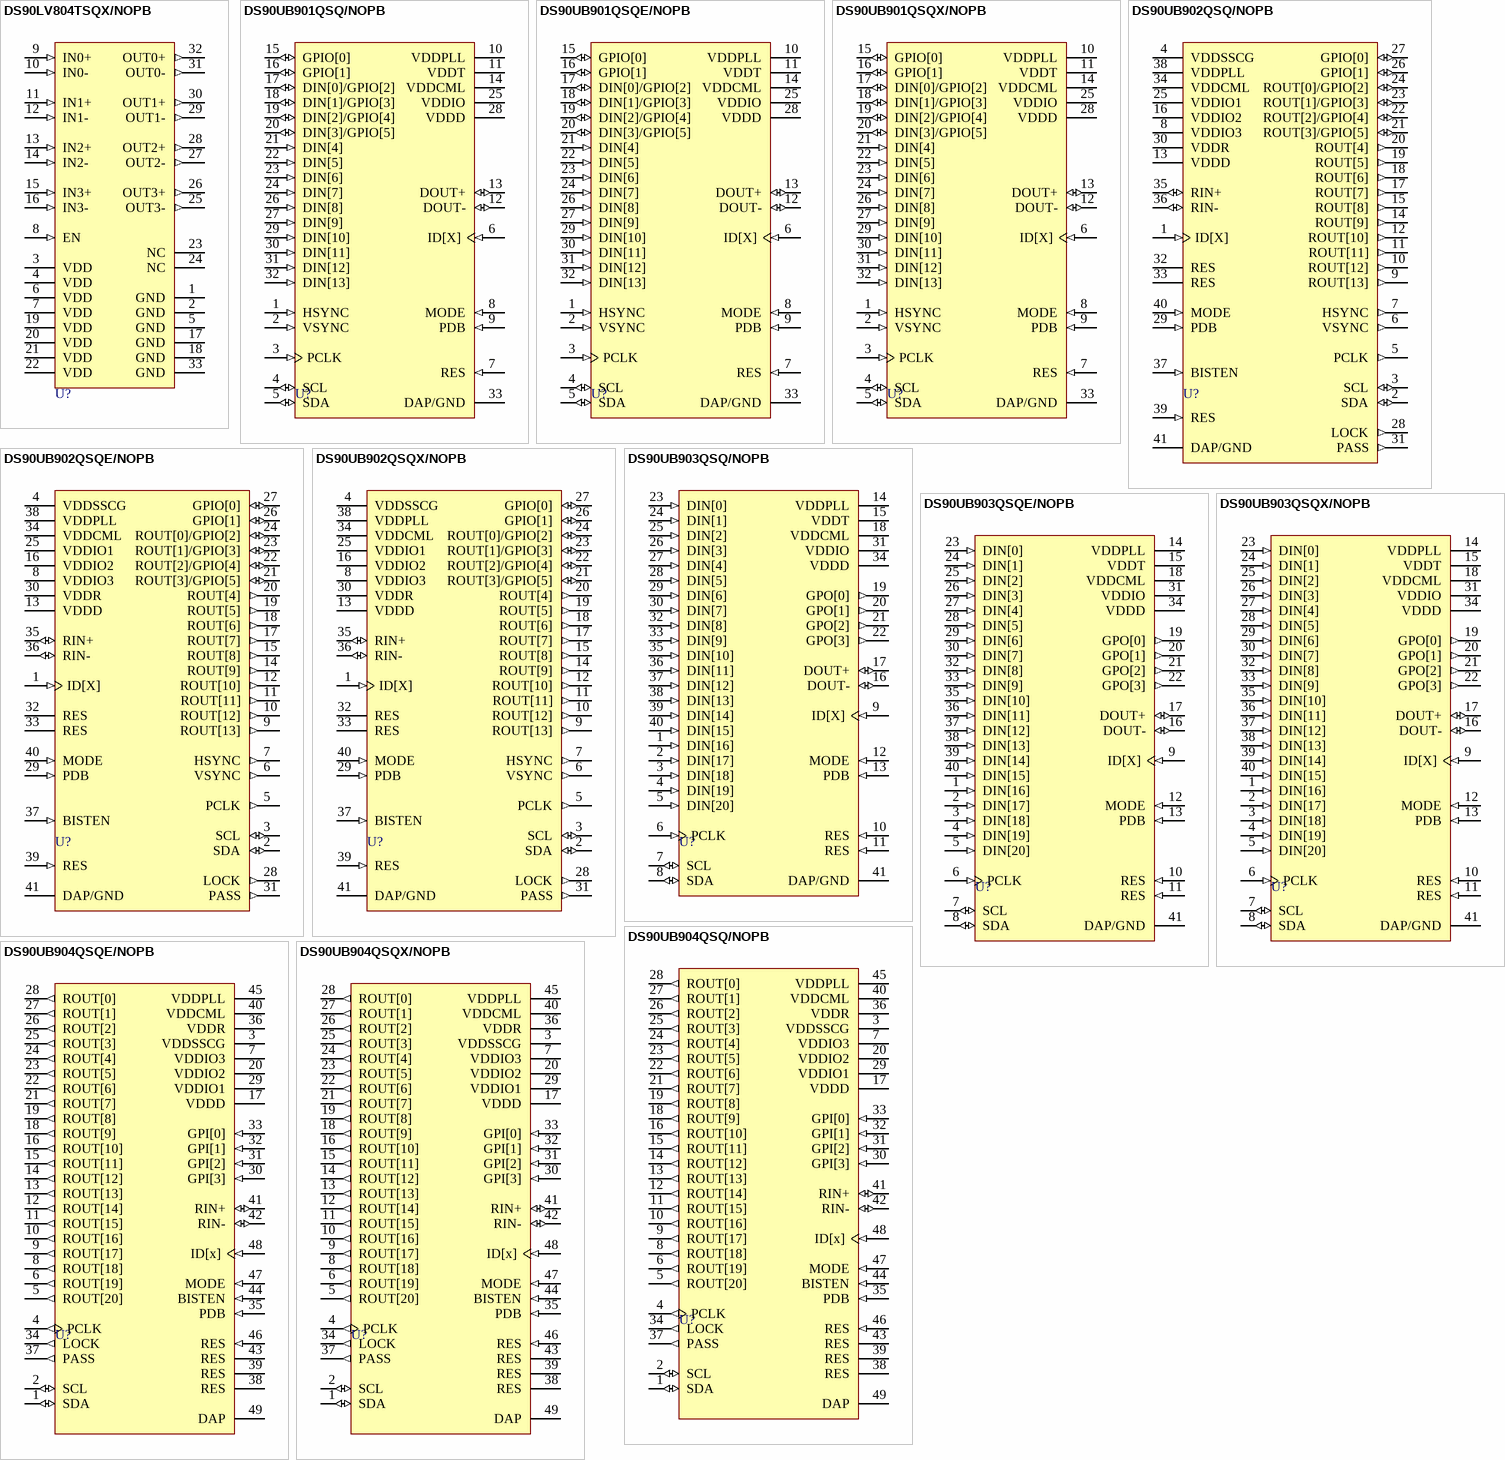
[diagram p63: symbols DS90LV804TSQX/NOPB to DS90UB904QSQX/NOPB]

## DS90LV804TSQX/NOPB
designator U?
4-Channel 800 Mbps LVDS Buffer/Repeater, 32-pin LLP, Pb-Free; PartNumber: DS90LV804TSQX/NOPB; Manufacturer: National Semiconductor; PackageTopMarking: NS*UZXYTT*804TSQ; PowerWise: N; CompType: Interface IC; High-Reliability: Y; DatasheetVersion: Mar-2009; PackageVersion: revB, Oct-2009; PackageReference: SQA32A; PackageDescription: LLP, Quad, 5 x 5 x 0.8mm, 32 Lead, 0.5mm Pitch, No Pullback 3.1 x 3.1 Exposed Pad; RoHS: Y; PinCount: 32; ComponentLink1Description: Manufacturer URL; ComponentLink1URL: http://www.national.com/; ComponentLink2Description: DS90LV804 Datasheet; ComponentLink2URL: http://www.national.com/ds/DS/DS90LV804.pdf; ComponentLink3Description: DS90LV804 Web Page; ComponentLink3URL: http://www.national.com/pf/DS/DS90LV804.html; ComponentLink4Description: SQA32A Package Page; ComponentLink4URL: http://www.national.com/packaging/folders/sqa32a.html
footprint SQA32A (QFN, 32-Leads, Body 5x5mm, Pitch 0.5mm, Thermal Pad 3.2x3.2mm, NSC Recommended)
pins: 1 GND (power), 2 GND (power), 3 VDD (power), 4 VDD (power), 5 GND (power), 6 VDD (power), 7 VDD (power), 8 EN (in), 9 IN0+ (in), 10 IN0- (in), 11 IN1+ (in), 12 IN1- (in), 13 IN2+ (in), 14 IN2- (in), 15 IN3+ (in), 16 IN3- (in), 17 GND (power), 18 GND (power), 19 VDD (power), 20 VDD (power), 21 VDD (power), 22 VDD (power), 23 NC, 24 NC, 25 OUT3- (out), 26 OUT3+ (out), 27 OUT2- (out), 28 OUT2+ (out), 29 OUT1- (out), 30 OUT1+ (out), 31 OUT0- (out), 32 OUT0+ (out), 33 GND (power)

## DS90UB901QSQ/NOPB
designator U?
10 - 43MHz 14 Bit Color FPD-Link III Serializer with Bi-Directional Control Channel, 32 pin LLP; PartNumber: DS90UB901QSQ/NOPB; Manufacturer: National Semiconductor; PackageTopMarking: NS*UZXYTT*UB901SQ; PowerWise: N; CompType: Interface IC; High-Reliability: Y; DatasheetVersion: Sep-2010; PackageVersion: revB, Oct-2009; PackageReference: SQA32A; PackageDescription: LLP, Quad, 5 x 5 x 0.8mm, 32 Lead, 0.5mm Pitch, No Pullback 3.1 x 3.1 Exposed Pad; RoHS: Y; PinCount: 32; ComponentLink1Description: Manufacturer URL; ComponentLink1URL: http://www.national.com/; ComponentLink2Description: DS90UB901Q Datasheet; ComponentLink2URL: http://www.national.com/ds/DS/DS90UB901Q.pdf; ComponentLink3Description: DS90UB901Q Web Page; ComponentLink3URL: http://www.national.com/pf/DS/DS90UB901Q.html; ComponentLink4Description: SQA32A Package Page; ComponentLink4URL: http://www.national.com/packaging/folders/sqa32a.html
footprint SQA32A (QFN, 32-Leads, Body 5x5mm, Pitch 0.5mm, Thermal Pad 3.2x3.2mm, NSC Recommended)
pins: 1 HSYNC (in), 2 VSYNC (in), 3 PCLK (in), 4 SCL (io), 5 SDA (io), 6 ID[X] (in), 7 RES (in), 8 MODE (in), 9 PDB (in), 10 VDDPLL (power), 11 VDDT (power), 12 DOUT- (io), 13 DOUT+ (io), 14 VDDCML (power), 15 GPIO[0] (io), 16 GPIO[1] (io), 17 DIN[0]/GPIO[2] (io), 18 DIN[1]/GPIO[3] (io), 19 DIN[2]/GPIO[4] (io), 20 DIN[3]/GPIO[5] (io), 21 DIN[4] (in), 22 DIN[5] (in), 23 DIN[6] (in), 24 DIN[7] (in), 25 VDDIO (power), 26 DIN[8] (in), 27 DIN[9] (in), 28 VDDD (power), 29 DIN[10] (in), 30 DIN[11] (in), 31 DIN[12] (in), 32 DIN[13] (in), 33 DAP/GND (power)

## DS90UB901QSQE/NOPB
designator U?
10 - 43MHz 14 Bit Color FPD-Link III Serializer with Bi-Directional Control Channel, 32 pin LLP; PartNumber: DS90UB901QSQE/NOPB; Manufacturer: National Semiconductor; PackageTopMarking: NS*UZXYTT*UB901SQ; PowerWise: N; CompType: Interface IC; High-Reliability: Y; DatasheetVersion: Sep-2010; PackageVersion: revB, Oct-2009; PackageReference: SQA32A; PackageDescription: LLP, Quad, 5 x 5 x 0.8mm, 32 Lead, 0.5mm Pitch, No Pullback 3.1 x 3.1 Exposed Pad; RoHS: Y; PinCount: 32; ComponentLink1Description: Manufacturer URL; ComponentLink1URL: http://www.national.com/; ComponentLink2Description: DS90UB901Q Datasheet; ComponentLink2URL: http://www.national.com/ds/DS/DS90UB901Q.pdf; ComponentLink3Description: DS90UB901Q Web Page; ComponentLink3URL: http://www.national.com/pf/DS/DS90UB901Q.html; ComponentLink4Description: SQA32A Package Page; ComponentLink4URL: http://www.national.com/packaging/folders/sqa32a.html
footprint SQA32A (QFN, 32-Leads, Body 5x5mm, Pitch 0.5mm, Thermal Pad 3.2x3.2mm, NSC Recommended)
pins: 1 HSYNC (in), 2 VSYNC (in), 3 PCLK (in), 4 SCL (io), 5 SDA (io), 6 ID[X] (in), 7 RES (in), 8 MODE (in), 9 PDB (in), 10 VDDPLL (power), 11 VDDT (power), 12 DOUT- (io), 13 DOUT+ (io), 14 VDDCML (power), 15 GPIO[0] (io), 16 GPIO[1] (io), 17 DIN[0]/GPIO[2] (io), 18 DIN[1]/GPIO[3] (io), 19 DIN[2]/GPIO[4] (io), 20 DIN[3]/GPIO[5] (io), 21 DIN[4] (in), 22 DIN[5] (in), 23 DIN[6] (in), 24 DIN[7] (in), 25 VDDIO (power), 26 DIN[8] (in), 27 DIN[9] (in), 28 VDDD (power), 29 DIN[10] (in), 30 DIN[11] (in), 31 DIN[12] (in), 32 DIN[13] (in), 33 DAP/GND (power)

## DS90UB901QSQX/NOPB
designator U?
10 - 43MHz 14 Bit Color FPD-Link III Serializer with Bi-Directional Control Channel, 32 pin LLP; PartNumber: DS90UB901QSQX/NOPB; Manufacturer: National Semiconductor; PackageTopMarking: NS*UZXYTT*UB901SQ; PowerWise: N; CompType: Interface IC; High-Reliability: Y; DatasheetVersion: Sep-2010; PackageVersion: revB, Oct-2009; PackageReference: SQA32A; PackageDescription: LLP, Quad, 5 x 5 x 0.8mm, 32 Lead, 0.5mm Pitch, No Pullback 3.1 x 3.1 Exposed Pad; RoHS: Y; PinCount: 32; ComponentLink1Description: Manufacturer URL; ComponentLink1URL: http://www.national.com/; ComponentLink2Description: DS90UB901Q Datasheet; ComponentLink2URL: http://www.national.com/ds/DS/DS90UB901Q.pdf; ComponentLink3Description: DS90UB901Q Web Page; ComponentLink3URL: http://www.national.com/pf/DS/DS90UB901Q.html; ComponentLink4Description: SQA32A Package Page; ComponentLink4URL: http://www.national.com/packaging/folders/sqa32a.html
footprint SQA32A (QFN, 32-Leads, Body 5x5mm, Pitch 0.5mm, Thermal Pad 3.2x3.2mm, NSC Recommended)
pins: 1 HSYNC (in), 2 VSYNC (in), 3 PCLK (in), 4 SCL (io), 5 SDA (io), 6 ID[X] (in), 7 RES (in), 8 MODE (in), 9 PDB (in), 10 VDDPLL (power), 11 VDDT (power), 12 DOUT- (io), 13 DOUT+ (io), 14 VDDCML (power), 15 GPIO[0] (io), 16 GPIO[1] (io), 17 DIN[0]/GPIO[2] (io), 18 DIN[1]/GPIO[3] (io), 19 DIN[2]/GPIO[4] (io), 20 DIN[3]/GPIO[5] (io), 21 DIN[4] (in), 22 DIN[5] (in), 23 DIN[6] (in), 24 DIN[7] (in), 25 VDDIO (power), 26 DIN[8] (in), 27 DIN[9] (in), 28 VDDD (power), 29 DIN[10] (in), 30 DIN[11] (in), 31 DIN[12] (in), 32 DIN[13] (in), 33 DAP/GND (power)

## DS90UB902QSQ/NOPB
designator U?
10 - 43MHz 14 Bit Color FPD-Link III Deserializer with Bi-Directional Control Channel, 40 pin LLP; PartNumber: DS90UB902QSQ/NOPB; Manufacturer: National Semiconductor; PackageTopMarking: NS*UZXYTTE#*UB902QSQ; PowerWise: N; CompType: Interface IC; High-Reliability: Y; DatasheetVersion: Sep-2010; PackageVersion: revB, Mar-2004; PackageReference: SQA40A; PackageDescription: LLP, Plastic, Quad, 6 x 6 x 0.8mm Body, 40 Lead, 0.5mm Pitch, No Pullback; RoHS: Y; PinCount: 40; ComponentLink1Description: Manufacturer URL; ComponentLink1URL: http://www.national.com/; ComponentLink2Description: DS90UB902Q Datasheet; ComponentLink2URL: http://www.national.com/ds/DS/DS90UB902Q.pdf; ComponentLink3Description: DS90UB902Q Web Page; ComponentLink3URL: http://www.national.com/pf/DS/DS90UB902Q.html; ComponentLink4Description: SQA40A Package Page; ComponentLink4URL: http://www.national.com/packaging/folders/sqa40a.html
footprint SQA40A (QFN, 40-Leads, Body 6x6mm, Pitch 0.5mm, Thermal Pad 4.7x4.7mm, NSC Recommended)
pins: 1 ID[X] (in), 2 SDA (io), 3 SCL (io), 4 VDDSSCG (power), 5 PCLK (out), 6 VSYNC (out), 7 HSYNC (out), 8 VDDIO3 (power), 9 ROUT[13] (out), 10 ROUT[12] (out), 11 ROUT[11] (out), 12 ROUT[10] (out), 13 VDDD (power), 14 ROUT[9] (out), 15 ROUT[8] (out), 16 VDDIO2 (power), 17 ROUT[7] (out), 18 ROUT[6] (out), 19 ROUT[5] (out), 20 ROUT[4] (out), 21 ROUT[3]/GPIO[5] (io), 22 ROUT[2]/GPIO[4] (io), 23 ROUT[1]/GPIO[3] (io), 24 ROUT[0]/GPIO[2] (io), 25 VDDIO1 (power), 26 GPIO[1] (io), 27 GPIO[0] (io), 28 LOCK (out), 29 PDB (in), 30 VDDR (power), 31 PASS (out), 32 RES, 33 RES, 34 VDDCML (power), 35 RIN+ (io), 36 RIN- (io), 37 BISTEN (in), 38 VDDPLL (power), 39 RES (in), 40 MODE (in), 41 DAP/GND (power)

## DS90UB902QSQE/NOPB
designator U?
10 - 43MHz 14 Bit Color FPD-Link III Deserializer with Bi-Directional Control Channel, 40 pin LLP; PartNumber: DS90UB902QSQE/NOPB; Manufacturer: National Semiconductor; PackageTopMarking: NS*UZXYTTE#*UB902QSQ; PowerWise: N; CompType: Interface IC; High-Reliability: Y; DatasheetVersion: Sep-2010; PackageVersion: revB, Mar-2004; PackageReference: SQA40A; PackageDescription: LLP, Plastic, Quad, 6 x 6 x 0.8mm Body, 40 Lead, 0.5mm Pitch, No Pullback; RoHS: Y; PinCount: 40; ComponentLink1Description: Manufacturer URL; ComponentLink1URL: http://www.national.com/; ComponentLink2Description: DS90UB902Q Datasheet; ComponentLink2URL: http://www.national.com/ds/DS/DS90UB902Q.pdf; ComponentLink3Description: DS90UB902Q Web Page; ComponentLink3URL: http://www.national.com/pf/DS/DS90UB902Q.html; ComponentLink4Description: SQA40A Package Page; ComponentLink4URL: http://www.national.com/packaging/folders/sqa40a.html
footprint SQA40A (QFN, 40-Leads, Body 6x6mm, Pitch 0.5mm, Thermal Pad 4.7x4.7mm, NSC Recommended)
pins: 1 ID[X] (in), 2 SDA (io), 3 SCL (io), 4 VDDSSCG (power), 5 PCLK (out), 6 VSYNC (out), 7 HSYNC (out), 8 VDDIO3 (power), 9 ROUT[13] (out), 10 ROUT[12] (out), 11 ROUT[11] (out), 12 ROUT[10] (out), 13 VDDD (power), 14 ROUT[9] (out), 15 ROUT[8] (out), 16 VDDIO2 (power), 17 ROUT[7] (out), 18 ROUT[6] (out), 19 ROUT[5] (out), 20 ROUT[4] (out), 21 ROUT[3]/GPIO[5] (io), 22 ROUT[2]/GPIO[4] (io), 23 ROUT[1]/GPIO[3] (io), 24 ROUT[0]/GPIO[2] (io), 25 VDDIO1 (power), 26 GPIO[1] (io), 27 GPIO[0] (io), 28 LOCK (out), 29 PDB (in), 30 VDDR (power), 31 PASS (out), 32 RES, 33 RES, 34 VDDCML (power), 35 RIN+ (io), 36 RIN- (io), 37 BISTEN (in), 38 VDDPLL (power), 39 RES (in), 40 MODE (in), 41 DAP/GND (power)

## DS90UB902QSQX/NOPB
designator U?
10 - 43MHz 14 Bit Color FPD-Link III Deserializer with Bi-Directional Control Channel, 40 pin LLP; PartNumber: DS90UB902QSQX/NOPB; Manufacturer: National Semiconductor; PackageTopMarking: NS*UZXYTTE#*UB902QSQ; PowerWise: N; CompType: Interface IC; High-Reliability: Y; DatasheetVersion: Sep-2010; PackageVersion: revB, Mar-2004; PackageReference: SQA40A; PackageDescription: LLP, Plastic, Quad, 6 x 6 x 0.8mm Body, 40 Lead, 0.5mm Pitch, No Pullback; RoHS: Y; PinCount: 40; ComponentLink1Description: Manufacturer URL; ComponentLink1URL: http://www.national.com/; ComponentLink2Description: DS90UB902Q Datasheet; ComponentLink2URL: http://www.national.com/ds/DS/DS90UB902Q.pdf; ComponentLink3Description: DS90UB902Q Web Page; ComponentLink3URL: http://www.national.com/pf/DS/DS90UB902Q.html; ComponentLink4Description: SQA40A Package Page; ComponentLink4URL: http://www.national.com/packaging/folders/sqa40a.html
footprint SQA40A (QFN, 40-Leads, Body 6x6mm, Pitch 0.5mm, Thermal Pad 4.7x4.7mm, NSC Recommended)
pins: 1 ID[X] (in), 2 SDA (io), 3 SCL (io), 4 VDDSSCG (power), 5 PCLK (out), 6 VSYNC (out), 7 HSYNC (out), 8 VDDIO3 (power), 9 ROUT[13] (out), 10 ROUT[12] (out), 11 ROUT[11] (out), 12 ROUT[10] (out), 13 VDDD (power), 14 ROUT[9] (out), 15 ROUT[8] (out), 16 VDDIO2 (power), 17 ROUT[7] (out), 18 ROUT[6] (out), 19 ROUT[5] (out), 20 ROUT[4] (out), 21 ROUT[3]/GPIO[5] (io), 22 ROUT[2]/GPIO[4] (io), 23 ROUT[1]/GPIO[3] (io), 24 ROUT[0]/GPIO[2] (io), 25 VDDIO1 (power), 26 GPIO[1] (io), 27 GPIO[0] (io), 28 LOCK (out), 29 PDB (in), 30 VDDR (power), 31 PASS (out), 32 RES, 33 RES, 34 VDDCML (power), 35 RIN+ (io), 36 RIN- (io), 37 BISTEN (in), 38 VDDPLL (power), 39 RES (in), 40 MODE (in), 41 DAP/GND (power)

## DS90UB903QSQ/NOPB
designator U?
10 - 43MHz 18 Bit Color FPD-Link III Serializer with Bi-Directional Control Channel, 40 pin LLP; PartNumber: DS90UB903QSQ/NOPB; Manufacturer: National Semiconductor; PackageTopMarking: NS*UZXYTTE#*UB903QSQ; PowerWise: N; CompType: Interface IC; High-Reliability: Y; DatasheetVersion: Sep-2010; PackageVersion: revB, Mar-2004; PackageReference: SQA40A; PackageDescription: LLP, Plastic, Quad, 6 x 6 x 0.8mm Body, 40 Lead, 0.5mm Pitch, No Pullback; RoHS: Y; PinCount: 40; ComponentLink1Description: Manufacturer URL; ComponentLink1URL: http://www.national.com/; ComponentLink2Description: DS90UB903Q Datasheet; ComponentLink2URL: http://www.national.com/ds/DS/DS90UB903Q.pdf; ComponentLink3Description: DS90UB903Q Web Page; ComponentLink3URL: http://www.national.com/pf/DS/DS90UB903Q.html; ComponentLink4Description: SQA40A Package Page; ComponentLink4URL: http://www.national.com/packaging/folders/sqa40a.html
footprint SQA40A (QFN, 40-Leads, Body 6x6mm, Pitch 0.5mm, Thermal Pad 4.7x4.7mm, NSC Recommended)
pins: 1 DIN[16] (in), 2 DIN[17] (in), 3 DIN[18] (in), 4 DIN[19] (in), 5 DIN[20] (in), 6 PCLK (in), 7 SCL (io), 8 SDA (io), 9 ID[X] (in), 10 RES (in), 11 RES (in), 12 MODE (in), 13 PDB (in), 14 VDDPLL (power), 15 VDDT (power), 16 DOUT- (io), 17 DOUT+ (io), 18 VDDCML (power), 19 GPO[0] (out), 20 GPO[1] (out), 21 GPO[2] (out), 22 GPO[3] (out), 23 DIN[0] (in), 24 DIN[1] (in), 25 DIN[2] (in), 26 DIN[3] (in), 27 DIN[4] (in), 28 DIN[5] (in), 29 DIN[6] (in), 30 DIN[7] (in), 31 VDDIO (power), 32 DIN[8] (in), 33 DIN[9] (in), 34 VDDD (power), 35 DIN[10] (in), 36 DIN[11] (in), 37 DIN[12] (in), 38 DIN[13] (in), 39 DIN[14] (in), 40 DIN[15] (in), 41 DAP/GND (power)

## DS90UB903QSQE/NOPB
designator U?
10 - 43MHz 18 Bit Color FPD-Link III Serializer with Bi-Directional Control Channel, 40 pin LLP; PartNumber: DS90UB903QSQE/NOPB; Manufacturer: National Semiconductor; PackageTopMarking: NS*UZXYTTE#*UB903QSQ; PowerWise: N; CompType: Interface IC; High-Reliability: Y; DatasheetVersion: Sep-2010; PackageVersion: revB, Mar-2004; PackageReference: SQA40A; PackageDescription: LLP, Plastic, Quad, 6 x 6 x 0.8mm Body, 40 Lead, 0.5mm Pitch, No Pullback; RoHS: Y; PinCount: 40; ComponentLink1Description: Manufacturer URL; ComponentLink1URL: http://www.national.com/; ComponentLink2Description: DS90UB903Q Datasheet; ComponentLink2URL: http://www.national.com/ds/DS/DS90UB903Q.pdf; ComponentLink3Description: DS90UB903Q Web Page; ComponentLink3URL: http://www.national.com/pf/DS/DS90UB903Q.html; ComponentLink4Description: SQA40A Package Page; ComponentLink4URL: http://www.national.com/packaging/folders/sqa40a.html
footprint SQA40A (QFN, 40-Leads, Body 6x6mm, Pitch 0.5mm, Thermal Pad 4.7x4.7mm, NSC Recommended)
pins: 1 DIN[16] (in), 2 DIN[17] (in), 3 DIN[18] (in), 4 DIN[19] (in), 5 DIN[20] (in), 6 PCLK (in), 7 SCL (io), 8 SDA (io), 9 ID[X] (in), 10 RES (in), 11 RES (in), 12 MODE (in), 13 PDB (in), 14 VDDPLL (power), 15 VDDT (power), 16 DOUT- (io), 17 DOUT+ (io), 18 VDDCML (power), 19 GPO[0] (out), 20 GPO[1] (out), 21 GPO[2] (out), 22 GPO[3] (out), 23 DIN[0] (in), 24 DIN[1] (in), 25 DIN[2] (in), 26 DIN[3] (in), 27 DIN[4] (in), 28 DIN[5] (in), 29 DIN[6] (in), 30 DIN[7] (in), 31 VDDIO (power), 32 DIN[8] (in), 33 DIN[9] (in), 34 VDDD (power), 35 DIN[10] (in), 36 DIN[11] (in), 37 DIN[12] (in), 38 DIN[13] (in), 39 DIN[14] (in), 40 DIN[15] (in), 41 DAP/GND (power)

## DS90UB903QSQX/NOPB
designator U?
10 - 43MHz 18 Bit Color FPD-Link III Serializer with Bi-Directional Control Channel, 40 pin LLP; PartNumber: DS90UB903QSQX/NOPB; Manufacturer: National Semiconductor; PackageTopMarking: NS*UZXYTTE#*UB903QSQ; PowerWise: N; CompType: Interface IC; High-Reliability: Y; DatasheetVersion: Sep-2010; PackageVersion: revB, Mar-2004; PackageReference: SQA40A; PackageDescription: LLP, Plastic, Quad, 6 x 6 x 0.8mm Body, 40 Lead, 0.5mm Pitch, No Pullback; RoHS: Y; PinCount: 40; ComponentLink1Description: Manufacturer URL; ComponentLink1URL: http://www.national.com/; ComponentLink2Description: DS90UB903Q Datasheet; ComponentLink2URL: http://www.national.com/ds/DS/DS90UB903Q.pdf; ComponentLink3Description: DS90UB903Q Web Page; ComponentLink3URL: http://www.national.com/pf/DS/DS90UB903Q.html; ComponentLink4Description: SQA40A Package Page; ComponentLink4URL: http://www.national.com/packaging/folders/sqa40a.html
footprint SQA40A (QFN, 40-Leads, Body 6x6mm, Pitch 0.5mm, Thermal Pad 4.7x4.7mm, NSC Recommended)
pins: 1 DIN[16] (in), 2 DIN[17] (in), 3 DIN[18] (in), 4 DIN[19] (in), 5 DIN[20] (in), 6 PCLK (in), 7 SCL (io), 8 SDA (io), 9 ID[X] (in), 10 RES (in), 11 RES (in), 12 MODE (in), 13 PDB (in), 14 VDDPLL (power), 15 VDDT (power), 16 DOUT- (io), 17 DOUT+ (io), 18 VDDCML (power), 19 GPO[0] (out), 20 GPO[1] (out), 21 GPO[2] (out), 22 GPO[3] (out), 23 DIN[0] (in), 24 DIN[1] (in), 25 DIN[2] (in), 26 DIN[3] (in), 27 DIN[4] (in), 28 DIN[5] (in), 29 DIN[6] (in), 30 DIN[7] (in), 31 VDDIO (power), 32 DIN[8] (in), 33 DIN[9] (in), 34 VDDD (power), 35 DIN[10] (in), 36 DIN[11] (in), 37 DIN[12] (in), 38 DIN[13] (in), 39 DIN[14] (in), 40 DIN[15] (in), 41 DAP/GND (power)